# Altium schematic symbol library 100068622_block_diagram.SchLib: 42 symbols
Pins are listed as number, name and electrical type; pins without a type are passive.

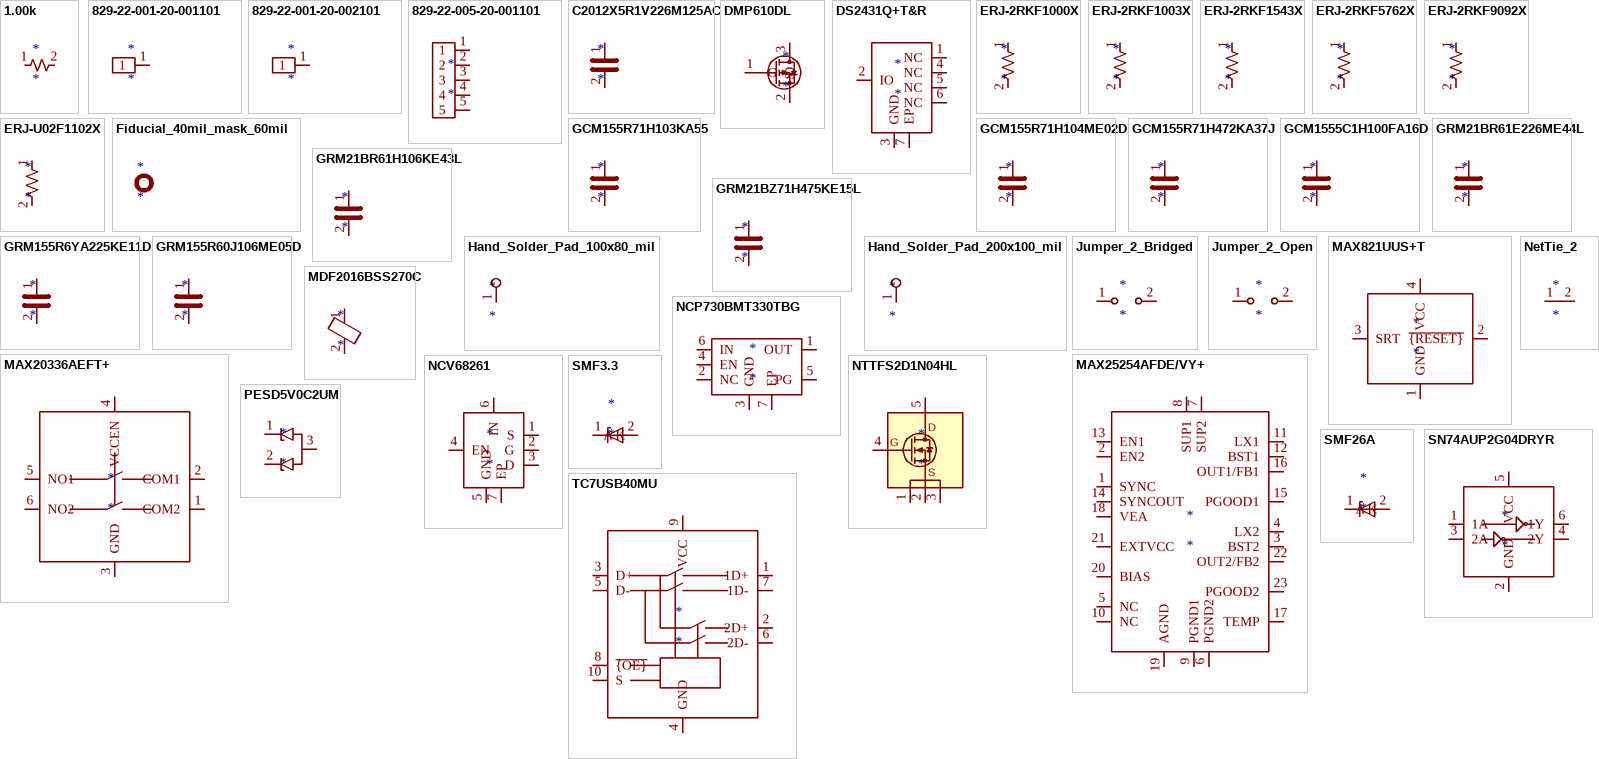
[diagram p0: symbols 1.00k to TC7USB40MU]

## 1.00k
designator *
pins: 1, 2

## 829-22-001-20-001101
designator *
pins: 1

## 829-22-001-20-002101
designator *
pins: 1

## 829-22-005-20-001101
designator *
pins: 1, 2, 3, 4, 5

## C2012X5R1V226M125AC
designator *
pins: 1, 2

## DMP610DL
designator *
pins: 1 G, 2 S, 3 D

## DS2431Q+T&R
designator *
pins: 1 NC, 2 IO, 3 GND, 4 NC, 5 NC, 6 NC, 7 EP

## ERJ-2RKF1000X
designator *
pins: 1, 2

## ERJ-2RKF1003X
designator *
pins: 1, 2

## ERJ-2RKF1543X
designator *
pins: 1, 2

## ERJ-2RKF5762X
designator *
pins: 1, 2

## ERJ-2RKF9092X
designator *
pins: 1, 2

## ERJ-U02F1102X
designator *
pins: 1, 2

## Fiducial_40mil_mask_60mil
designator *

## GCM155R71H103KA55
designator *
pins: 1, 2

## GCM155R71H104ME02D
designator *
pins: 1, 2

## GCM155R71H472KA37J
designator *
pins: 1, 2

## GCM1555C1H100FA16D
designator *
pins: 1, 2

## GRM21BR61E226ME44L
designator *
pins: 1, 2

## GRM21BR61H106KE43L
designator *
pins: 1, 2

## GRM21BZ71H475KE15L
designator *
pins: 1, 2

## GRM155R6YA225KE11D
designator *
pins: 1, 2

## GRM155R60J106ME05D
designator *
pins: 1, 2

## Hand_Solder_Pad_100x80_mil
designator *
pins: 1

## Hand_Solder_Pad_200x100_mil
designator *
pins: 1

## Jumper_2_Bridged
designator *
pins: 1 A, 2 B

## Jumper_2_Open
designator *
pins: 1 A, 2 B

## MAX821UUS+T
designator *
pins: 1 GND, 2 ~{{RESET}}, 3 SRT, 4 VCC

## MAX20336AEFT+
designator *
pins: 1 COM2, 2 COM1, 3 GND, 4 VCCEN, 5 NO1, 6 NO2

## MAX25254AFDE/VY+
designator *
pins: 1 SYNC, 2 EN2, 3 BST2, 4 LX2, 5 NC, 6 PGND2, 7 SUP2, 8 SUP1, 9 PGND1, 10 NC, 11 LX1, 12 BST1, 13 EN1, 14 SYNCOUT, 15 PGOOD1, 16 OUT1/FB1, 17 TEMP, 18 VEA, 19 AGND, 20 BIAS, 21 EXTVCC, 22 OUT2/FB2, 23 PGOOD2

## MDF2016BSS270C
designator *
pins: 1, 2

## NCP730BMT330TBG
designator *
pins: 1 OUT, 2 NC, 3 GND, 4 EN, 5 PG, 6 IN, 7 EP

## NCV68261
designator *
pins: 1 S, 2 G, 3 D, 4 EN, 5 GND, 6 IN, 7 EP

## NetTie_2
designator *
pins: 1, 2

## NTTFS2D1N04HL
designator *
pins: 1 S, 2 S, 3 S, 4 G, 5 D

## PESD5V0C2UM
designator *
pins: 1 K1, 2 K2, 3 A

## SMF3.3
designator *
pins: 1 K, 2 A

## SMF26A
designator *
pins: 1 K, 2 A

## SN74AUP2G04DRYR
designator *
pins: 1 1A, 2 GND, 3 2A, 4 2Y, 5 VCC, 6 1Y

## TC7USB40MU
designator *
pins: 1 1D+, 2 2D+, 3 D+, 4 GND, 5 D-, 6 2D-, 7 1D-, 8 ~{{OE}}, 9 VCC, 10 S

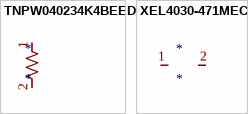
[diagram p1: symbols TNPW040234K4BEED to XEL4030-471MEC]

## TNPW040234K4BEED
designator *
pins: 1, 2

## XEL4030-471MEC
designator *
pins: 1, 2